# Altium footprint library PPTC081LFBN-RC.PcbLib: 1 footprints
Each footprint in its own frame and in the unit in brackets; x right, y up, seen from the top. Pads: shape width x height; smd on the part's side, far side on the other; paste and mask are expansions set on the pad; w line width, h text height; cw(c..) or ccw(c..) is an arc to the next point about the centre after c.
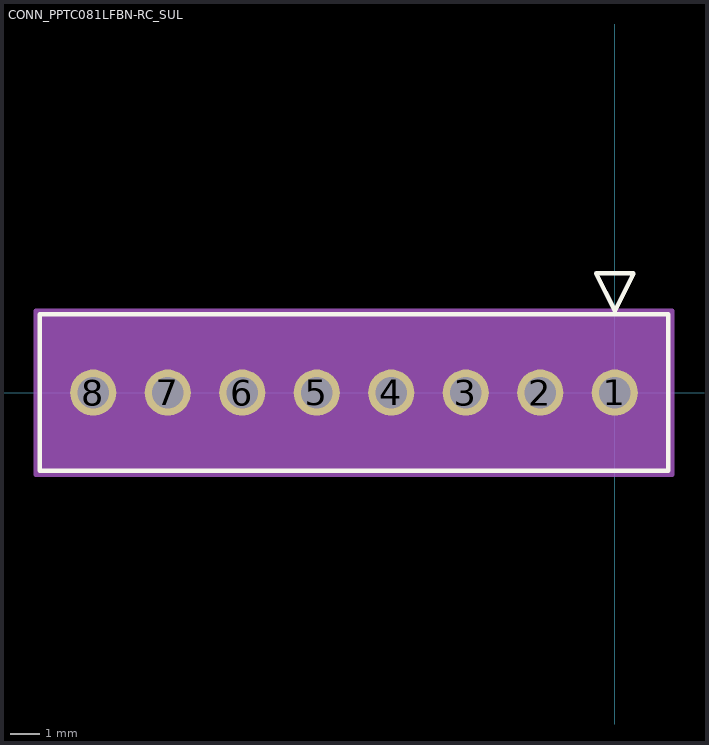
[diagram p0: the footprint, top view; thin cyan lines are the x and y axes]

## CONN_PPTC081LFBN-RC_SUL [mil]
pads (8):
  round 62 / inner round 60 / far side round 62 hole 42 paste-31 mask+0: 1(0,0) 2(-100,0) 3(-200,0) 4(-300,0) 5(-400,0) 6(-500,0) 7(-600,0) 8(-700,0)
Top Overlay:
  lines w6: -772,-105 72,-105 72,105 -772,105 -772,-105 ; -25,160 0,110 25,160 -25,160
Mechanical 13:
  lines w1: -767,-100 67,-100 67,100 -767,100 -767,-100 ; -25,160 0,110 25,160 -25,160
Mechanical 15:
  region: 77,110 -777,110 -777,-110 77,-110
  lines w6: -777,-110 -777,110 77,110 77,-110 -777,-110